# EAGLE library part FLE-108-01-G-DV (library con_samtec2)
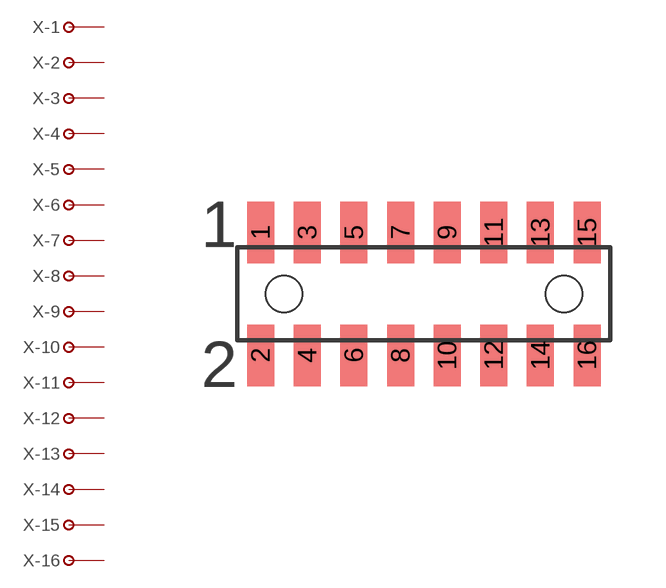
[diagram p6: symbol with the pads of FLE_08X2; footprint FLE_08X2]

Designator prefix X; gates -1=PIN-3 -2=PIN-3 -3=PIN-3 -4=PIN-3 -5=PIN-3 -6=PIN-3 -7=PIN-3 -8=PIN-3 -9=PIN-3 -10=PIN-3 -11=PIN-3 -12=PIN-3 -13=PIN-3 -14=PIN-3 -15=PIN-3 -16=PIN-3

## FLE-108-01-G-DV  [FLE_08X2]
1  -1:P$1
2  -2:P$1
3  -3:P$1
4  -4:P$1
5  -5:P$1
6  -6:P$1
7  -7:P$1
8  -8:P$1
9  -9:P$1
10  -10:P$1
11  -11:P$1
12  -12:P$1
13  -13:P$1
14  -14:P$1
15  -15:P$1
16  -16:P$1

## Footprint FLE_08X2 (pad centres in mm)
smd 0.737 x 1.676: 1 -4.445,1.676; 2 -4.445,-1.676; 3 -3.175,1.676; 4 -3.175,-1.676; 5 -1.905,1.676; 6 -1.905,-1.676; 7 -0.635,1.676; 8 -0.635,-1.676; 9 0.635,1.676; 10 0.635,-1.676; 11 1.905,1.676; 12 1.905,-1.676; 13 3.175,1.676; 14 3.175,-1.676; 15 4.445,1.676; 16 4.445,-1.676
hole 1 at -3.81,0
hole 1 at 3.81,0